# EAGLE library part MAX8548 (library Tristan+Robitaille_s+Library)
MAX8548 - PWM Buck Converter Controller Technical Specifications: Input range: 2.7V to 28V Output range: 0.8V to 0.83x VIN 100kHz switching frequency Temperature range: -40C to 85C Max. output current: 15A Datasheet <http://datasheets.maximintegrated.com/en/ds/MAX8545-MAX8548.pdf> Digi-Key Part #: MAX8548EUB+-ND <http://www.digikey.ca/product-search/en?keywords=MAX8548EUB%2B-ND> Mouser Part #: 700-MAX8548EUB <http://ca.mouser.com/ProductDetail/Maxim-Integrated/MAX8548EUB+/?qs=sGAEpiMZZMvFgFrcgbsedUwvHNul97FyGz%2fjEdvvNJc%3d> Manufacturer Part #: MAX8548EUB+
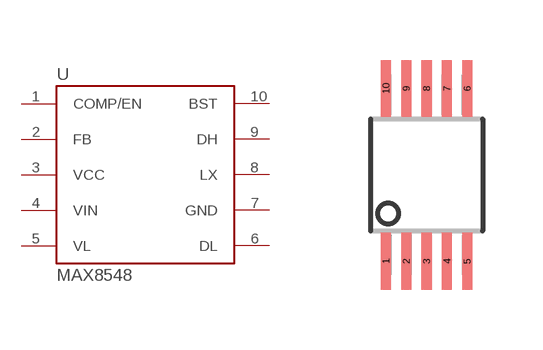
[diagram p1: symbol with the pads of UMAX10; footprint UMAX10]

Designator prefix U

## MAX8548 (DIGIKEY#: MAX8548EUB+-ND; MANF: MAX8548 Step-Down Controller; MANF#: MAX8548EUB+; MOUSER#: 700-MAX8548EUB)  [UMAX10]
1  COMP/EN  in
2  FB  in
3  VCC  pwr
4  VIN  pwr
5  VL  out
6  DL  out
7  GND  pwr
8  LX
9  DH  out
10  BST  out

## Footprint UMAX10 (pad centres in mm)
smd 0.254 x 1.422: 1 -1.016,-2.159; 2 -0.508,-2.159; 3 0,-2.159; 4 0.508,-2.159; 5 1.016,-2.159; 6 1.016,2.159; 7 0.508,2.159; 8 0,2.159; 9 -0.508,2.159; 10 -1.016,2.159